# EAGLE library part DSPIC30F5015 (library @Club_Microchip_divers-)
dsPIC Motion Controller DSC
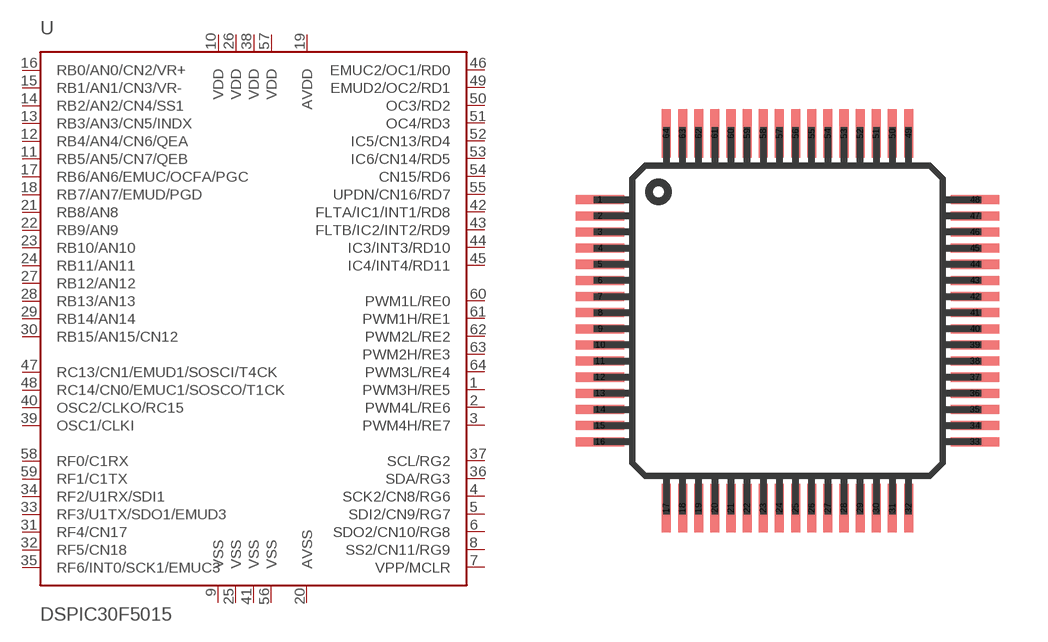
[diagram p31: symbol with the pads of TQFP64-10X10; footprint TQFP64-10X10]

Designator prefix -

## DSPIC30F5015/PF  [TQFP64-10X10]
1  PWM3H/RE5
2  PWM4L/RE6
3  PWM4H/RE7
4  SCK2/CN8/RG6
5  SDI2/CN9/RG7
6  SDO2/CN10/RG8
7  VPP/MCLR  in
8  SS2/CN11/RG9
9  VSS  pwr
10  VDD  pwr
11  RB5/AN5/CN7/QEB
12  RB4/AN4/CN6/QEA
13  RB3/AN3/CN5/INDX
14  RB2/AN2/CN4/SS1
15  RB1/AN1/CN3/VR-
16  RB0/AN0/CN2/VR+
17  RB6/AN6/EMUC/OCFA/PGC
18  RB7/AN7/EMUD/PGD
19  AVDD  pwr
20  AVSS  pwr
21  RB8/AN8
22  RB9/AN9
23  RB10/AN10
24  RB11/AN11
25  VSS  pwr
26  VDD  pwr
27  RB12/AN12
28  RB13/AN13
29  RB14/AN14
30  RB15/AN15/CN12
31  RF4/CN17
32  RF5/CN18
33  RF3/U1TX/SDO1/EMUD3
34  RF2/U1RX/SDI1
35  RF6/INT0/SCK1/EMUC3
36  SDA/RG3
37  SCL/RG2
38  VDD  pwr
39  OSC1/CLKI  in
40  OSC2/CLKO/RC15
41  VSS  pwr
42  FLTA/IC1/INT1/RD8
43  FLTB/IC2/INT2/RD9
44  IC3/INT3/RD10
45  IC4/INT4/RD11
46  EMUC2/OC1/RD0
47  RC13/CN1/EMUD1/SOSCI/T4CK
48  RC14/CN0/EMUC1/SOSCO/T1CK
49  EMUD2/OC2/RD1
50  OC3/RD2
51  OC4/RD3
52  IC5/CN13/RD4
53  IC6/CN14/RD5
54  CN15/RD6
55  UPDN/CN16/RD7
56  VSS  pwr
57  VDD  pwr
58  RF0/C1RX
59  RF1/C1TX
60  PWM1L/RE0
61  PWM1H/RE1
62  PWM2L/RE2
63  PWM2H/RE3
64  PWM3L/RE4

## Footprint TQFP64-10X10 (pad centres in mm)
Thin Quad Flat Pack package type TQ
smd 1.5 x 0.28: 1 -5.8,3.75; 2 -5.8,3.25; 3 -5.8,2.75; 4 -5.8,2.25; 5 -5.8,1.75; 6 -5.8,1.25; 7 -5.8,0.75; 8 -5.8,0.25; 9 -5.8,-0.25; 10 -5.8,-0.75; 11 -5.8,-1.25; 12 -5.8,-1.75; 13 -5.8,-2.25; 14 -5.8,-2.75; 15 -5.8,-3.25; 16 -5.8,-3.75; 33 5.8,-3.75; 34 5.8,-3.25; 35 5.8,-2.75; 36 5.8,-2.25; 37 5.8,-1.75; 38 5.8,-1.25; 39 5.8,-0.75; 40 5.8,-0.25; 41 5.8,0.25; 42 5.8,0.75; 43 5.8,1.25; 44 5.8,1.75; 45 5.8,2.25; 46 5.8,2.75; 47 5.8,3.25; 48 5.8,3.75
smd 0.28 x 1.5: 17 -3.75,-5.8; 18 -3.25,-5.8; 19 -2.75,-5.8; 20 -2.25,-5.8; 21 -1.75,-5.8; 22 -1.25,-5.8; 23 -0.75,-5.8; 24 -0.25,-5.8; 25 0.25,-5.8; 26 0.75,-5.8; 27 1.25,-5.8; 28 1.75,-5.8; 29 2.25,-5.8; 30 2.75,-5.8; 31 3.25,-5.8; 32 3.75,-5.8; 49 3.75,5.8; 50 3.25,5.8; 51 2.75,5.8; 52 2.25,5.8; 53 1.75,5.8; 54 1.25,5.8; 55 0.75,5.8; 56 0.25,5.8; 57 -0.25,5.8; 58 -0.75,5.8; 59 -1.25,5.8; 60 -1.75,5.8; 61 -2.25,5.8; 62 -2.75,5.8; 63 -3.25,5.8; 64 -3.75,5.8